# Altium schematic symbol library SamacSys.SchLib: 43 symbols
Pins are listed as number, name and electrical type; pins without a type are passive.

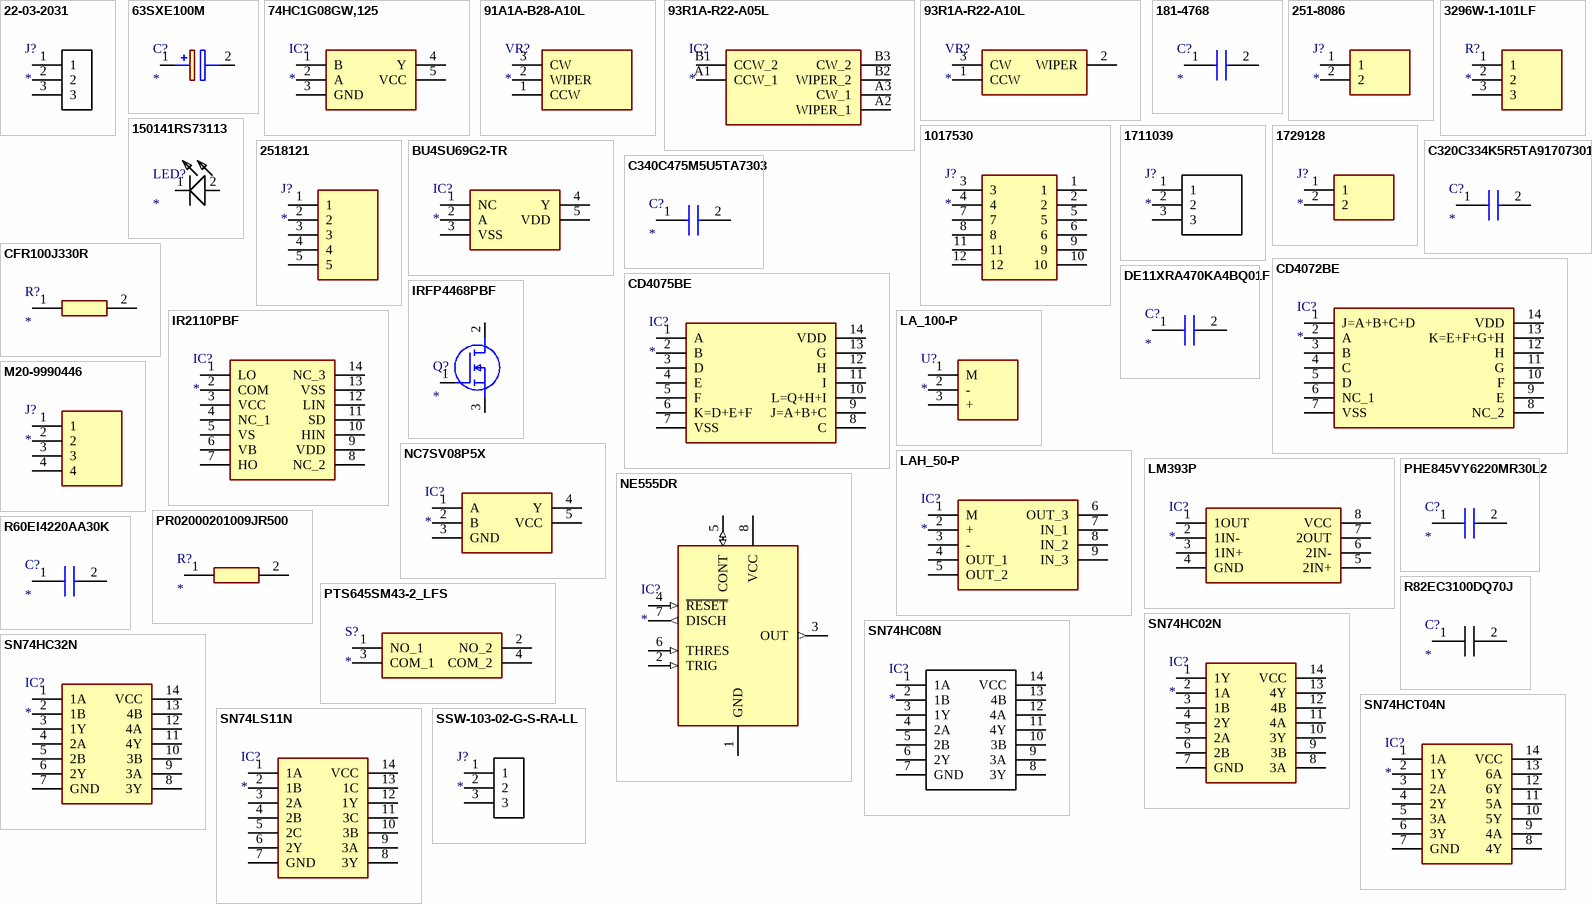
[diagram p0: symbols 22-03-2031 to SSW-103-02-G-S-RA-LL]

## 22-03-2031
designator J?
Connector; Manufacturer_Name: Molex; Datasheet Link: http://www.molex.com/pdm_docs/sd/022032031_sd.pdf; Height: 11.17mm; Manufacturer_Part_Number: 22-03-2031; Mouser Part Number: 538-22-03-2031; Mouser Price/Stock: https://www.mouser.co.uk/ProductDetail/Molex/22-03-2031?qs=ILqg114nvd5V8pMNdVJtPA%3D%3D
footprint HDRV3W67P0X254_1X3_737X236X1117P
pins: 1, 2, 3

## 63SXE100M
designator C?
Capacitor Polarised; Manufacturer_Name: Panasonic; Manufacturer_Part_Number: 63SXE100M; Datasheet Link: http://industrial.panasonic.com/cdbs/www-data/pdf/AAB8000/AAB8000C262.pdf; Height: 13mm; Mouser Part Number: 667-63SXE100M; Mouser Price/Stock: https://www.mouser.co.uk/ProductDetail/Panasonic/63SXE100M?qs=%252B6g0mu59x7Ltzd4977WBfg%3D%3D
footprint CAPPRD500W65D1000H1300
pins: 1 +, 2 -

## 74HC1G08GW,125
designator IC?
Integrated Circuit; Manufacturer_Name: Nexperia; Manufacturer_Part_Number: 74HC1G08GW,125; Datasheet Link: https://assets.nexperia.com/documents/data-sheet/74HC_HCT1G08.pdf; Height: 1.1mm; Mouser Part Number: 771-74HC1G08GW-G; Mouser Price/Stock: https://www.mouser.co.uk/ProductDetail/Nexperia/74HC1G08GW125?qs=P62ublwmbi9oj7Z1ltKG7g%3D%3D; Arrow Part Number: 74HC1G08GW,125; Arrow Price/Stock: https://www.arrow.com/en/products/74hc1g08gw125/nexperia
footprint SOT65P212X110-5N
pins: 1 B, 2 A, 3 GND, 4 Y, 5 VCC

## 91A1A-B28-A10L
designator VR?
Variable Resistor; Manufacturer_Name: Bourns; Manufacturer_Part_Number: 91A1A-B28-A10L; Datasheet Link: https://componentsearchengine.com/Datasheets/2/91A1A-B28-A10L.pdf; Height: 17.45mm; Mouser Part Number: 652-91A1A-B28-A10L; Mouser Price/Stock: https://www.mouser.co.uk/ProductDetail/Bourns/91A1A-B28-A10L?qs=1v0N1zrvLE7fztbDhYOM%252Bg%3D%3D; Arrow Part Number: 91A1A-B28-A10L; Arrow Price/Stock: https://www.arrow.com/en/products/91a1a-b28-a10l/bourns
footprint 91A1AB28A10L
pins: 1 CCW, 2 WIPER, 3 CW

## 93R1A-R22-A05L
designator IC?
Integrated Circuit; Manufacturer_Name: Bourns; Manufacturer_Part_Number: 93R1A-R22-A05L; Datasheet Link: https://componentsearchengine.com/Datasheets/2/93R1A-R22-A05L.pdf; Height: 17.45mm; Mouser Part Number: 652-93R1A-R22-A05L; Mouser Price/Stock: https://www.mouser.co.uk/ProductDetail/Bourns/93R1A-R22-A05L?qs=iuQ%252BhjgTeihycjIdZRuATg%3D%3D; Arrow Part Number: 93R1A-R22-A05L; Arrow Price/Stock: https://www.arrow.com/en/products/93r1a-r22-a05l/bourns
footprint 93R1AR22A05L
pins: A1 CCW_1, A2 WIPER_1, A3 CW_1, B1 CCW_2, B2 WIPER_2, B3 CW_2

## 93R1A-R22-A10L
designator VR?
Variable Resistor; Manufacturer_Name: Bourns; Manufacturer_Part_Number: 93R1A-R22-A10L; Datasheet Link: https://www.bourns.com/docs/Product-Datasheets/91_95.pdf; Height: 17.45mm; Mouser Part Number: 652-93R1A-R22-A10L; Mouser Price/Stock: https://www.mouser.co.uk/ProductDetail/Bourns/93R1A-R22-A10L?qs=iuQ%252BhjgTeijEjr0nmynQsQ%3D%3D; Arrow Part Number: 93R1A-R22-A10L; Arrow Price/Stock: https://www.arrow.com/en/products/93r1a-r22-a10l/bourns
footprint 93R1AR22A10L
pins: 1 CCW, 2 WIPER, 3 CW

## 181-4768
designator C?
Capacitor; Manufacturer_Name: RS Components; Manufacturer_Part_Number: 181-4768; Datasheet Link: https://docs.rs-online.com/821c/0900766b816c111a.pdf; Height: 13mm
footprint 1814768
pins: 1 +, 2 -

## 251-8086
designator J?
Connector; Manufacturer_Name: RS Components; Manufacturer_Part_Number: 251-8086; Height: 9.4mm
footprint 2518086
pins: 1, 2

## 3296W-1-101LF
designator R?
Resistor; Manufacturer_Name: Bourns; Manufacturer_Part_Number: 3296W-1-101LF; Datasheet Link: https://www.bourns.com/pdfs/3296.pdf; Mouser Part Number: 652-3296W-1-101LF; Mouser Price/Stock: https://www.mouser.co.uk/ProductDetail/Bourns/3296W-1-101LF?qs=UcU9LKO1dwEefwKxVJG4Jw%3D%3D; Arrow Part Number: 3296W-1-101LF; Arrow Price/Stock: https://www.arrow.com/en/products/3296w-1-101lf/bourns?region=europe
footprint 3296W-1
pins: 1, 2, 3

## 150141RS73113
designator LED?
LED; Manufacturer_Name: Wurth Elektronik; Manufacturer_Part_Number: 150141RS73113; Datasheet Link: https://katalog.we-online.de/led/datasheet/150141RS73113.pdf; Height: 2.1mm; Mouser Part Number: 710-150141RS73113; Mouser Price/Stock: https://www.mouser.co.uk/ProductDetail/Wurth-Elektronik/150141RS73113?qs=u16ybLDytRaJkUgH%252BpeDTw%3D%3D
footprint LEDM3528X210N
pins: 1 K, 2 A

## 1017530
designator J?
Connector; Manufacturer_Name: Phoenix Contact; Manufacturer_Part_Number: 1017530; Datasheet Link: https://datasheet.datasheetarchive.com/originals/distributors/DKDS40/DSANUWW004805.pdf; Height: 31.4mm; Mouser Part Number: 651-1017530; Mouser Price/Stock: https://www.mouser.co.uk/ProductDetail/Phoenix-Contact/1017530?qs=F5EMLAvA7IBpWHxdKw7bwQ%3D%3D
footprint 1017530
pins: 1, 2, 3, 4, 5, 6, 7, 8, 9, 10, 11, 12

## 1711039
designator J?
Connector; Manufacturer_Name: Phoenix Contact; Manufacturer_Part_Number: 1711039; Datasheet Link: http://www.phoenixcontact.com/de/produkte/1711039/pdf; Height: 18.2mm; Mouser Part Number: 651-1711039; Mouser Price/Stock: https://www.mouser.co.uk/ProductDetail/Phoenix-Contact/1711039?qs=YbgdthCBnKeEUIePCOJ5Kg%3D%3D; Arrow Part Number: 1711039; Arrow Price/Stock: https://www.arrow.com/en/products/1711039/phoenix-contact?region=nac
footprint 1711039
pins: 1, 2, 3

## 1729128
designator J?
Connector; Manufacturer_Name: Phoenix Contact; Manufacturer_Part_Number: 1729128; Datasheet Link: http://www.phoenixcontact.net/product/1729128; Height: 10.15mm; Mouser Part Number: 651-1729128; Mouser Price/Stock: https://www.mouser.co.uk/ProductDetail/Phoenix-Contact/1729128?qs=GFUSqQMLmmnCBVBY3dts9w%3D%3D; Arrow Part Number: 1729128; Arrow Price/Stock: https://www.arrow.com/en/products/1729128/phoenix-contact?region=nac
footprint 1729128
pins: 1, 2

## 2518121
designator J?
Connector; Manufacturer_Name: RS Components; Manufacturer_Part_Number: 2518121; Datasheet Link: https://uk.rs-online.com/web/p/pcb-headers/2518121/; Height: 9.4mm
footprint 2518121
pins: 1, 2, 3, 4, 5

## BU4SU69G2-TR
designator IC?
Integrated Circuit; Manufacturer_Name: ROHM Semiconductor; Manufacturer_Part_Number: BU4SU69G2-TR; Datasheet Link: http://rohmfs.rohm.com/en/products/databook/datasheet/ic/logic_switch/standard_logic/bu4su69g2-e.pdf; Height: 1.25mm; Mouser Part Number: 755-BU4SU69G2-TR; Mouser Price/Stock: https://www.mouser.co.uk/ProductDetail/ROHM-Semiconductor/BU4SU69G2-TR?qs=4kLU8WoGk0v%252BoYuedjwg1Q%3D%3D; Arrow Part Number: BU4SU69G2-TR; Arrow Price/Stock: https://www.arrow.com/en/products/bu4su69g2-tr/rohm-semiconductor?region=nac
footprint SOT95P280X125-5N
pins: 1 NC, 2 A, 3 VSS, 4 Y, 5 VDD

## C320C334K5R5TA91707301
designator C?
Capacitor; Manufacturer_Name: KEMET; Manufacturer_Part_Number: C320C334K5R5TA91707301; Datasheet Link: https://content.kemet.com/datasheets/KEM_C1053_GOLDMAX_X7R_AUTO.pdf; Mouser Part Number: 80-C320C334K5R9170-R; Mouser Price/Stock: https://www.mouser.co.uk/ProductDetail/KEMET/C320C334K5R5TA91707301?qs=CMe0l2alOJWOav3f3bfBiQ%3D%3D
footprint C320C334K5R5TA91707301
pins: 1, 2

## C340C475M5U5TA7303
designator C?
Capacitor; Manufacturer_Name: KEMET; Manufacturer_Part_Number: C340C475M5U5TA7303; Datasheet Link: https://content.kemet.com/datasheets/KEM_C1051_GOLDMAX_Z5U.pdf; Height: 10.16mm; Mouser Part Number: 80-C340C475M5U-TR; Mouser Price/Stock: https://www.mouser.com/Search/Refine.aspx?Keyword=80-C340C475M5U-TR
footprint C340C475M5U5TA7303
pins: 1, 2

## CD4072BE
designator IC?
Integrated Circuit; Manufacturer_Name: Texas Instruments; Manufacturer_Part_Number: CD4072BE; Datasheet Link: https://datasheet.datasheetarchive.com/originals/distributors/Datasheets-DGA13/1137270.pdf; Height: 5.08mm; Mouser Part Number: 595-CD4072BE; Mouser Price/Stock: https://www.mouser.co.uk/ProductDetail/Texas-Instruments/CD4072BE?qs=B7lSdIxWQkmpclnilCFN%2FQ%3D%3D; Arrow Part Number: CD4072BE; Arrow Price/Stock: https://www.arrow.com/en/products/cd4072be/texas-instruments?region=nac
footprint DIP794W53P254L1930H508Q14N
pins: 1 J=A+B+C+D, 2 A, 3 B, 4 C, 5 D, 6 NC_1, 7 VSS, 8 NC_2, 9 E, 10 F, 11 G, 12 H, 13 K=E+F+G+H, 14 VDD

## CD4075BE
designator IC?
Integrated Circuit; Manufacturer_Name: Texas Instruments; Manufacturer_Part_Number: CD4075BE; Datasheet Link: http://www.ti.com/lit/gpn/cd4075b; Height: 5.08mm; Mouser Part Number: 595-CD4075BE; Mouser Price/Stock: https://www.mouser.co.uk/ProductDetail/Texas-Instruments/CD4075BE?qs=q2XTDbzbm6DOrd01veSxoA%3D%3D; Arrow Part Number: CD4075BE; Arrow Price/Stock: https://www.arrow.com/en/products/cd4075be/texas-instruments?region=nac
footprint DIP794W53P254L1930H508Q14N
pins: 1 A, 2 B, 3 D, 4 E, 5 F, 6 K=D+E+F, 7 VSS, 8 C, 9 J=A+B+C, 10 L=Q+H+I, 11 I, 12 H, 13 G, 14 VDD

## CFR100J330R
designator R?
Resistor; Manufacturer_Name: TE Connectivity; Manufacturer_Part_Number: CFR100J330R; Datasheet Link: http://www.te.com/commerce/DocumentDelivery/DDEController?Action=showdoc&DocId=Data+Sheet%7F1773195%7FE%7Fpdf%7FEnglish%7FENG_DS_1773195_E.pdf%7F3-1623925-1; Mouser Part Number: 279-CFR100J330R; Mouser Price/Stock: https://www.mouser.co.uk/ProductDetail/TE-Connectivity-Neohm/CFR100J330R?qs=DDevMFOh4ssVKnglsGY0HA%3D%3D
footprint RESAD3200W75L1200D500
pins: 1, 2

## DE11XRA470KA4BQ01F
designator C?
Capacitor; Manufacturer_Name: Murata Electronics; Manufacturer_Part_Number: DE11XRA470KA4BQ01F; Datasheet Link: https://www.mouser.com/datasheet/2/281/DE1_RA_Q01F_E-1115434.pdf; Height: 11mm; Mouser Part Number: 81-DE11XRA470KA4BQ1F; Mouser Price/Stock: https://www.mouser.co.uk/ProductDetail/Murata-Electronics/DE11XRA470KA4BQ01F?qs=5aG0NVq1C4zq%2FuZurxxCqg%3D%3D; Arrow Part Number: DE11XRA470KA4BQ01F; Arrow Price/Stock: https://www.arrow.com/en/products/de11xra470ka4bq01f/murata-manufacturing
footprint DE11XRA470KA4BQ01F
pins: 1, 2

## IR2110PBF
designator IC?
Integrated Circuit; Manufacturer_Name: Infineon; Manufacturer_Part_Number: IR2110PBF; Datasheet Link: https://www.infineon.com/cms/en/product/power/gate-driver-ics/?; Height: 5.33mm; Mouser Part Number: 942-IR2110PBF; Mouser Price/Stock: https://www.mouser.co.uk/ProductDetail/Infineon-Technologies/IR2110PBF?qs=2r01AXMCG3MulUIzmlbKYw%3D%3D; Arrow Part Number: IR2110PBF; Arrow Price/Stock: https://www.arrow.com/en/products/ir2110pbf/infineon-technologies-ag?region=nac
footprint DIP761W56P254L1930H533Q14N
pins: 1 LO, 2 COM, 3 VCC, 4 NC_1, 5 VS, 6 VB, 7 HO, 8 NC_2, 9 VDD, 10 HIN, 11 SD, 12 LIN, 13 VSS, 14 NC_3

## IRFP4468PBF
designator Q?
MOSFET (N-Channel); Manufacturer_Name: Infineon; Manufacturer_Part_Number: IRFP4468PBF; Datasheet Link: https://eagle.componentsearchengine.com/Datasheets/2/IRFP4468PBF.pdf; Height: 5.31mm; Mouser Part Number: 942-IRFP4468PBF; Mouser Price/Stock: https://www.mouser.co.uk/ProductDetail/Infineon-Technologies/IRFP4468PBF?qs=9%252BKlkBgLFf2xb8HkRZHvkw%3D%3D; Arrow Part Number: IRFP4468PBF; Arrow Price/Stock: https://www.arrow.com/en/products/irfp4468pbf/infineon-technologies-ag?region=nac
footprint TO546P531X1558X2499-3P
pins: 1 G, 2 D, 3 S

## LA_100-P
designator U?
Undefined or Miscellaneous; Manufacturer_Name: LEM; Manufacturer_Part_Number: LA 100-P; Datasheet Link: https://datasheet.datasheetarchive.com/originals/distributors/Datasheets-16/DSA-314838.pdf
footprint LA-100-P
pins: 1 M, 2 -, 3 +

## LAH_50-P
designator IC?
Integrated Circuit; Manufacturer_Name: LEM; Manufacturer_Part_Number: LAH 50-P; Datasheet Link: https://www.lem.com/sites/default/files/products_datasheets/lah_50-p.pdf; Height: 21.15mm
footprint LAH50P
pins: 1 M, 2 +, 3 -, 4 OUT_1, 5 OUT_2, 6 OUT_3, 7 IN_1, 8 IN_2, 9 IN_3

## LM393P
designator IC?
Integrated Circuit; Manufacturer_Name: Texas Instruments; Manufacturer_Part_Number: LM393P; Datasheet Link: http://www.ti.com/lit/ds/symlink/lm393.pdf; Height: 5.08mm; Mouser Part Number: 595-LM393P; Mouser Price/Stock: https://www.mouser.co.uk/ProductDetail/Texas-Instruments/LM393P?qs=1K8%2FAQHn5WT5g4otW1rg%2Fg%3D%3D; Arrow Part Number: LM393P; Arrow Price/Stock: https://www.arrow.com/en/products/lm393p/texas-instruments?region=nac
footprint DIP794W53P254L959H508Q8N
pins: 1 1OUT, 2 1IN-, 3 1IN+, 4 GND, 5 2IN+, 6 2IN-, 7 2OUT, 8 VCC

## M20-9990446
designator J?
Connector; Manufacturer_Name: Harwin; Manufacturer_Part_Number: M20-9990446; Datasheet Link: https://www.harwin.com/products/M20-9990446/; Height: 8.89mm; Mouser Part Number: 855-M20-9990446; Mouser Price/Stock: https://www.mouser.co.uk/ProductDetail/Harwin/M20-9990446?qs=ulE8k0yEMYaW%252BOM7jiG6%252Bw%3D%3D
footprint HDRV4W64P0X254_1X4_1016X254X889P
pins: 1, 2, 3, 4

## NC7SV08P5X
designator IC?
Integrated Circuit; Manufacturer_Name: onsemi; Manufacturer_Part_Number: NC7SV08P5X; Datasheet Link: https://www.onsemi.com/pub/Collateral/NC7SV08-D.pdf; Height: 1.1mm; Mouser Part Number: 512-NC7SV08P5X; Mouser Price/Stock: https://www.mouser.co.uk/ProductDetail/ON-Semiconductor-Fairchild/NC7SV08P5X?qs=xIxZP1YTInYiaHwQ%252BGq9Ww%3D%3D; Arrow Part Number: NC7SV08P5X; Arrow Price/Stock: https://www.arrow.com/en/products/nc7sv08p5x/on-semiconductor
footprint SOT65P210X110-5N
pins: 1 A, 2 B, 3 GND, 4 Y, 5 VCC

## NE555DR
designator IC?
Integrated Circuit; Manufacturer_Name: Texas Instruments; Manufacturer_Part_Number: NE555DR; Datasheet Link: http://www.ti.com/lit/ds/symlink/ne555.pdf; Height: 1.75mm; Mouser Part Number: 595-NE555DR; Mouser Price/Stock: https://www.mouser.com/Search/Refine.aspx?Keyword=595-NE555DR; RS Part Number: 1218414; RS Price/Stock: http://uk.rs-online.com/web/p/products/1218414
footprint SOIC127P600X175-8N
pins: 1 GND (power), 2 TRIG (in), 3 OUT (out), 4 ~{RESET} (in), 5 CONT (io), 6 THRES (in), 7 DISCH (out), 8 VCC (power)

## PHE845VY6220MR30L2
designator C?
Capacitor; Manufacturer_Name: KEMET; Manufacturer_Part_Number: PHE845VY6220MR30L2; Datasheet Link: https://connect.kemet.com:7667/gateway/IntelliData-ComponentDocumentation/1.0/download/specsheet/F845DY224M760ALW0L; Height: 24.5mm; Mouser Part Number: 80-PHE845VY6220MR30; Mouser Price/Stock: https://www.mouser.co.uk/ProductDetail/KEMET/PHE845VY6220MR30L2?qs=MdJgNetHbfmnkWE77glUFA%3D%3D
footprint PHE845VY6220MR30L2
pins: 1, 2

## PR02000201009JR500
designator R?
Resistor; Manufacturer_Name: Vishay; Manufacturer_Part_Number: PR02000201009JR500; Datasheet Link: https://componentsearchengine.com/Datasheets/2/PR02000201009JR500.pdf; Mouser Part Number: 594-5083NW10R00J; Mouser Price/Stock: https://www.mouser.co.uk/ProductDetail/Vishay-BC-Components/PR02000201009JR500?qs=7reVrgTiN3YqjE9KUsFQcQ%3D%3D; Arrow Part Number: PR02000201009JR500; Arrow Price/Stock: https://www.arrow.com/en/products/pr02000201009jr500/vishay?region=nac
footprint RESAD2760W83L1200D390
pins: 1, 2

## PTS645SM43-2_LFS
designator S?
Switch; Manufacturer_Name: C & K COMPONENTS; Manufacturer_Part_Number: PTS645SM43-2 LFS; Datasheet Link: https://www.tme.com/Document/8b519d7a65df20ea1a483c3db2ec3948/pts645-DTE.pdf; Height: 4.4mm; Mouser Part Number: 611-PTS645SM432; Mouser Price/Stock: https://www.mouser.com/Search/Refine.aspx?Keyword=611-PTS645SM432; Arrow Part Number: PTS645SM43-2 LFS; Arrow Price/Stock: https://www.arrow.com/en/products/pts645sm432lfs/ck?region=nac
footprint PTS645SM432LFS
pins: 1 NO_1, 2 NO_2, 3 COM_1, 4 COM_2

## R60EI4220AA30K
designator C?
Capacitor; Manufacturer_Name: KEMET; Manufacturer_Part_Number: R60EI4220AA30K; Datasheet Link: https://www.kemet.com/specsheet/R60EI4220AA30K; Height: 14.6mm; Mouser Part Number: 80-R60EI4220AA30K; Mouser Price/Stock: https://www.mouser.com/Search/Refine.aspx?Keyword=80-R60EI4220AA30K
footprint R60EI4220AA30K
pins: 1, 2

## R82EC3100DQ70J
designator C?
Capacitor; Manufacturer_Name: KEMET; Manufacturer_Part_Number: R82EC3100DQ70J; Description: R82; Datasheet Link: https://content.kemet.com/datasheets/KEM_F3101_R82.pdf; Mouser Part Number: 80-R82EC3100DQ70J; Mouser Price/Stock: https://www.mouser.co.uk/ProductDetail/KEMET/R82EC3100DQ70J?qs=06HLYMEcjuWL%2FLtAKofksA%3D%3D; Arrow Part Number: R82EC3100DQ70J; Arrow Price/Stock: https://www.arrow.com/en/products/r82ec3100dq70j/kemet-corporation?region=nac
footprint R82(7.2X2.5)
pins: 1, 2

## SN74HC02N
designator IC?
Integrated Circuit; Manufacturer_Name: Texas Instruments; Manufacturer_Part_Number: SN74HC02N; Datasheet Link: https://datasheet.datasheetarchive.com/originals/distributors/SFDatasheet-6/sf-000133830.pdf; Height: 5.08mm; Mouser Part Number: 595-SN74HC02N; Mouser Price/Stock: https://www.mouser.co.uk/ProductDetail/Texas-Instruments/SN74HC02N?qs=st7IWvlL5%2FjbIdufZ10xyA%3D%3D; Arrow Part Number: SN74HC02N; Arrow Price/Stock: https://www.arrow.com/en/products/sn74hc02n/texas-instruments?region=nac
footprint DIP794W53P254L1930H508Q14N
pins: 1 1Y, 2 1A, 3 1B, 4 2Y, 5 2A, 6 2B, 7 GND, 8 3A, 9 3B, 10 3Y, 11 4A, 12 4B, 13 4Y, 14 VCC

## SN74HC08N
designator IC?
Integrated Circuit; Manufacturer_Name: Texas Instruments; Manufacturer_Part_Number: SN74HC08N; Description: QUADRUPLE 2-INPUT POSITIVE-NOR GATES; Datasheet Link: http://componentsearchengine.com/Datasheets/1/SN74HC08N.pdf; Height: 5.08mm; Mouser Part Number: 595-SN74HC08N; Mouser Price/Stock: https://www.mouser.co.uk/ProductDetail/Texas-Instruments/SN74HC08N?qs=UGVLDq%2F29uh3etwCLMoeTA%3D%3D; Arrow Part Number: SN74HC08N; Arrow Price/Stock: https://www.arrow.com/en/products/sn74hc08n/texas-instruments?region=nac
footprint DIP794W53P254L1930H508Q14N
pins: 1 1A, 2 1B, 3 1Y, 4 2A, 5 2B, 6 2Y, 7 GND, 8 3Y, 9 3A, 10 3B, 11 4Y, 12 4A, 13 4B, 14 VCC

## SN74HC32N
designator IC?
Integrated Circuit; Manufacturer_Name: Texas Instruments; Manufacturer_Part_Number: SN74HC32N; Datasheet Link: http://www.ti.com/lit/gpn/sn74hc32; Height: 5.08mm; Mouser Part Number: 595-SN74HC32N; Mouser Price/Stock: https://www.mouser.co.uk/ProductDetail/Texas-Instruments/SN74HC32N?qs=tJ5HNKWh3OWs99bm2e8RtQ%3D%3D; Arrow Part Number: SN74HC32N; Arrow Price/Stock: https://www.arrow.com/en/products/sn74hc32n/texas-instruments
footprint DIP794W53P254L1930H508Q14N
pins: 1 1A, 2 1B, 3 1Y, 4 2A, 5 2B, 6 2Y, 7 GND, 8 3Y, 9 3A, 10 3B, 11 4Y, 12 4A, 13 4B, 14 VCC

## SN74HCT04N
designator IC?
Integrated Circuit; Manufacturer_Name: Texas Instruments; Manufacturer_Part_Number: SN74HCT04N; Datasheet Link: http://www.ti.com/lit/gpn/sn74hct04; Height: 5.08mm; Mouser Part Number: 595-SN74HCT04N; Mouser Price/Stock: https://www.mouser.co.uk/ProductDetail/Texas-Instruments/SN74HCT04N?qs=dQtLEVC3WoYXjRsBQqZvgw%3D%3D; Arrow Part Number: SN74HCT04N; Arrow Price/Stock: https://www.arrow.com/en/products/sn74hct04n/texas-instruments?region=nac
footprint DIP794W53P254L1930H508Q14N
pins: 1 1A, 2 1Y, 3 2A, 4 2Y, 5 3A, 6 3Y, 7 GND, 8 4Y, 9 4A, 10 5Y, 11 5A, 12 6Y, 13 6A, 14 VCC

## SN74LS11N
designator IC?
Integrated Circuit; Manufacturer_Name: Texas Instruments; Manufacturer_Part_Number: SN74LS11N; Datasheet Link: http://componentsearchengine.com/Datasheets/1/SN74LS11N.pdf; Height: 5.08mm; Mouser Part Number: 595-SN74LS11N; Mouser Price/Stock: https://www.mouser.co.uk/ProductDetail/Texas-Instruments/SN74LS11N?qs=SL3LIuy2dWxSJzmA8EX4sA%3D%3D; Arrow Part Number: SN74LS11N; Arrow Price/Stock: https://www.arrow.com/en/products/sn74ls11n/texas-instruments?region=nac
footprint DIP794W53P254L1930H508Q14N
pins: 1 1A, 2 1B, 3 2A, 4 2B, 5 2C, 6 2Y, 7 GND, 8 3Y, 9 3A, 10 3B, 11 3C, 12 1Y, 13 1C, 14 VCC

## SSW-103-02-G-S-RA-LL
designator J?
Connector; Manufacturer_Name: SAMTEC; Manufacturer_Part_Number: SSW-103-02-G-S-RA-LL; Datasheet Link: http://suddendocs.samtec.com/catalog_english/ssw_th.pdf; Height: 2.41mm; Mouser Part Number: 200-SSW10302GSRALL; Mouser Price/Stock: https://www.mouser.co.uk/ProductDetail/Samtec/SSW-103-02-G-S-RA-LL?qs=lDMevKbHVyti%252BcbLX5U9iA%3D%3D
footprint RHDRRA3W79P254_1X3_813X851X241P
pins: 1, 2, 3

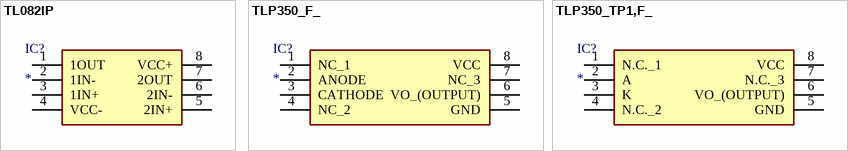
[diagram p1: symbols TL082IP to TLP350_TP1,F_]

## TL082IP
designator IC?
Integrated Circuit; Manufacturer_Name: Texas Instruments; Manufacturer_Part_Number: TL082IP; Datasheet Link: http://www.ti.com/lit/ds/symlink/tl081a.pdf; Height: 5.08mm; Mouser Part Number: 595-TL082IP; Mouser Price/Stock: https://www.mouser.com/Search/Refine.aspx?Keyword=595-TL082IP; Arrow Part Number: TL082IP; Arrow Price/Stock: https://www.arrow.com/en/products/tl082ip/texas-instruments
footprint DIP794W53P254L959H508Q8N
pins: 1 1OUT, 2 1IN-, 3 1IN+, 4 VCC-, 5 2IN+, 6 2IN-, 7 2OUT, 8 VCC+

## TLP350_F_
designator IC?
Integrated Circuit; Manufacturer_Name: Toshiba; Manufacturer_Part_Number: TLP350(F); Datasheet Link: https://toshiba.semicon-storage.com/info/docget.jsp?did=6217&prodName=TLP350; Height: 4.85mm; Mouser Part Number: 757-TLP350(F); Mouser Price/Stock: https://www.mouser.co.uk/ProductDetail/Toshiba/TLP350F?qs=f0GatGUIxV2gwSZ6twItgg%3D%3D
footprint DIP762W60P254L966H485Q8N
pins: 1 NC_1, 2 ANODE, 3 CATHODE, 4 NC_2, 5 GND, 6 VO_(OUTPUT), 7 NC_3, 8 VCC

## TLP350_TP1,F_
designator IC?
Integrated Circuit; Manufacturer_Name: Toshiba; Manufacturer_Part_Number: TLP350(TP1,F); Datasheet Link: https://toshiba.semicon-storage.com/info/docget.jsp?did=6217&prodName=TLP350; Height: 4.85mm; Mouser Part Number: 757-TLP350(TP1,F); Mouser Price/Stock: https://www.mouser.co.uk/ProductDetail/Toshiba/TLP350TP1F?qs=f0GatGUIxV3mNWWzK5NBiQ%3D%3D; Arrow Part Number: TLP350(TP1,F); Arrow Price/Stock: https://www.arrow.com/en/products/tlp350-tp1f/toshiba?region=asia
footprint DIP762W60P254L966H485Q8N
pins: 1 N.C._1, 2 A, 3 K, 4 N.C._2, 5 GND, 6 VO_(OUTPUT), 7 N.C._3, 8 VCC